# EAGLE library part BTT6200-1ENA (library PROFET - Infineon)
BTT6200-1ENA SOIC127P600X115-9N Smart High-Side Power Switch
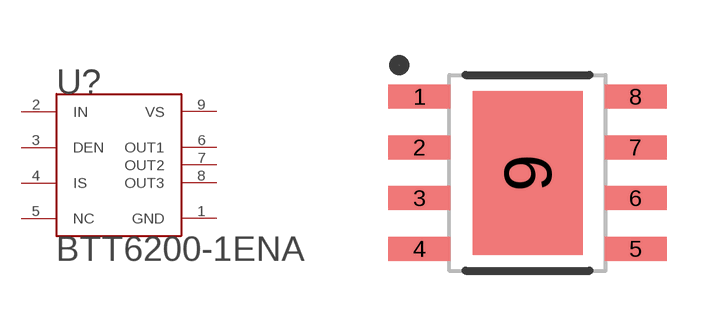
[diagram p24: symbol with the pads of SOIC127P600X115-9N; footprint SOIC127P600X115-9N]

Designator prefix U?

## BTT6200-1ENA  [SOIC127P600X115-9N]
1  GND  pwr
2  IN  in
3  DEN  in
4  IS  out
5  NC  pas
6  OUT1  out
7  OUT2  out
8  OUT3  out
9  VS  pwr

## Footprint SOIC127P600X115-9N (pad centres in mm)
Original name SOIC127P600X115-9N Max Component Height - 1.15mm
smd 1.55 x 0.6: 1 -2.7,1.905; 2 -2.7,0.635; 3 -2.7,-0.635; 4 -2.7,-1.905; 5 2.7,-1.905; 6 2.7,-0.635; 7 2.7,0.635; 8 2.7,1.905
smd 2.75 x 4.1: 9 0,0